# Altium footprint library SMD-IC  0607.PcbLib: 125 footprints (part 7 of 8)
Each footprint in its own frame and in the unit in brackets; x right, y up, seen from the top. Pads: shape width x height; smd on the part's side, far side on the other; paste and mask are expansions set on the pad; w line width, h text height; cw(c..) or ccw(c..) is an arc to the next point about the centre after c.
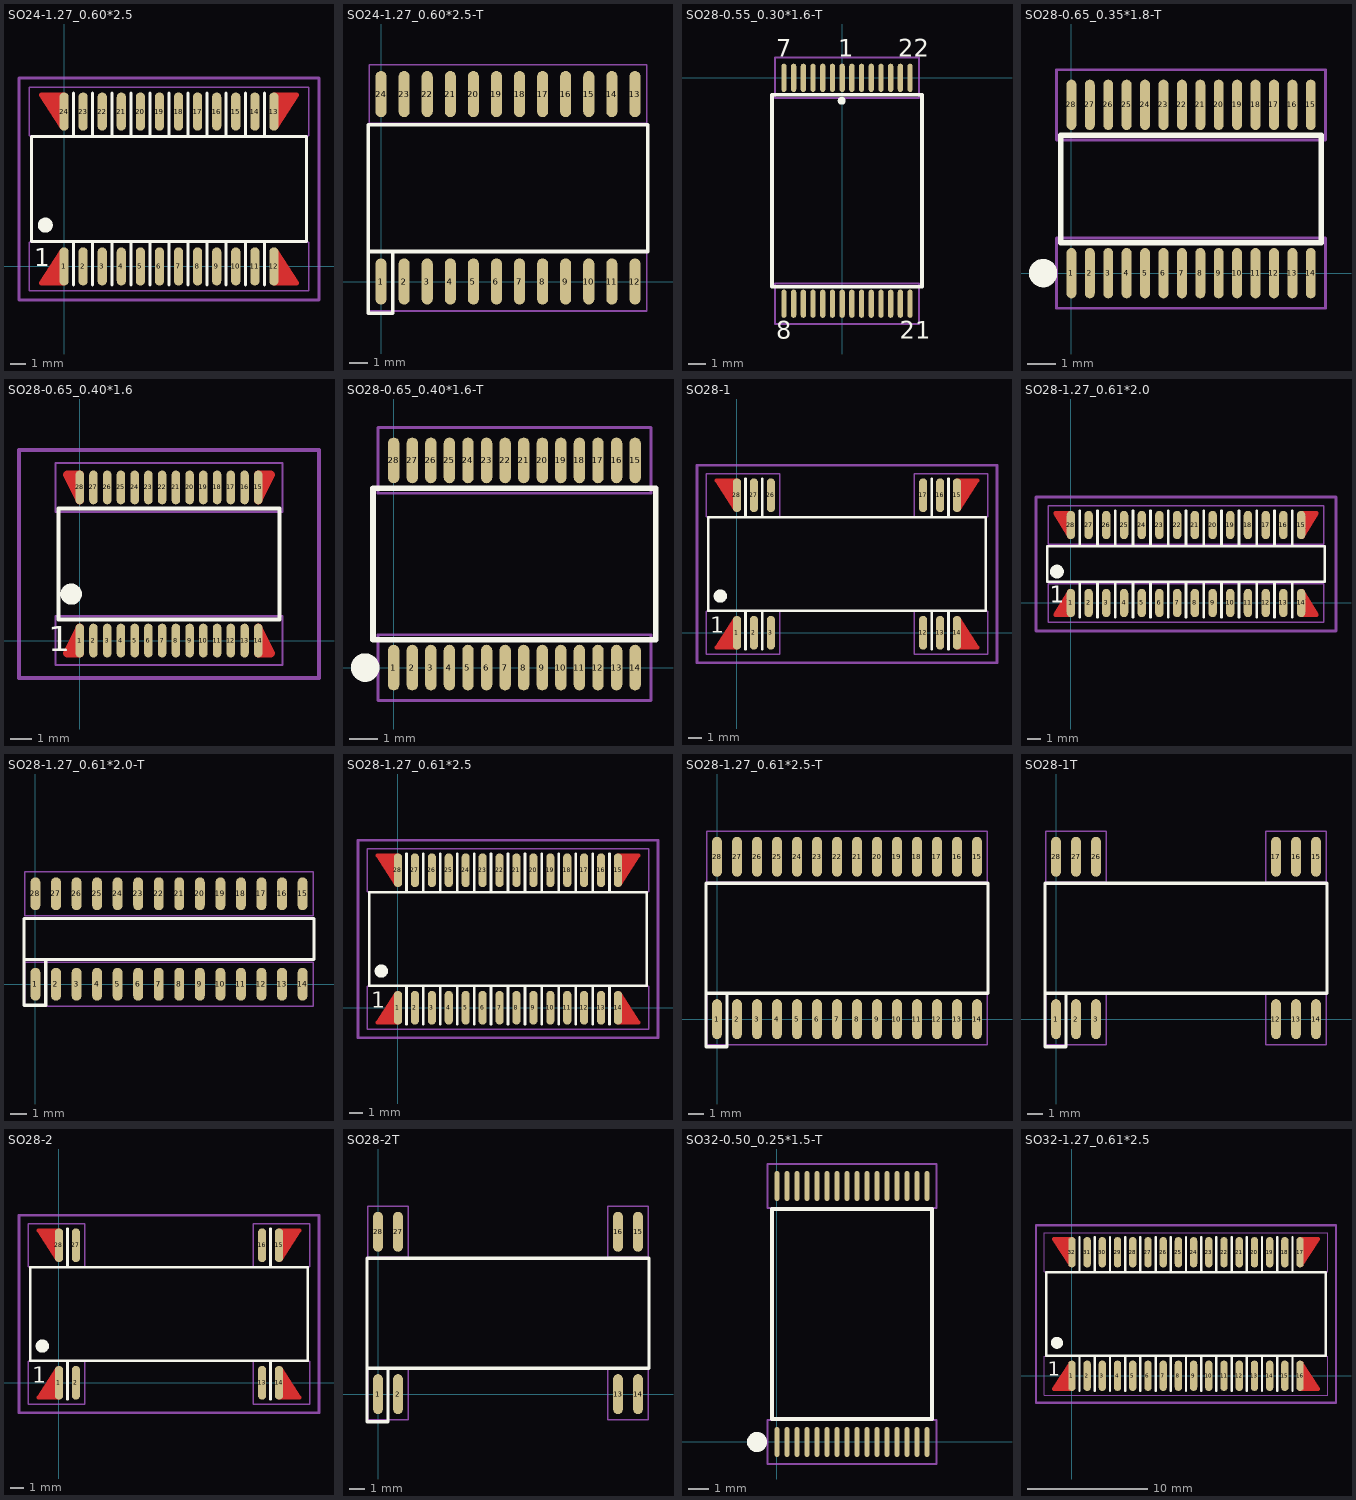
[diagram p6: the footprints below, top view; thin cyan lines are the x and y axes]

## SO24-1.27_0.60*2.5 [mm]
height 2.64
pads (24):
  oval 0.61x2.54 smd: 1(0,0) 2(1.27,0) 3(2.54,0) 4(3.81,0) 5(5.08,0) 6(6.35,0) 7(7.62,0) 8(8.89,0) 9(10.16,0) 10(11.43,0) 11(12.7,0) 12(13.97,0) 13(13.97,10.312) 14(12.7,10.312) 15(11.43,10.312) 16(10.16,10.312) 17(8.89,10.312) 18(7.62,10.312) 19(6.35,10.312) 20(5.08,10.312) 21(3.81,10.312) 22(2.54,10.312) 23(1.27,10.312) 24(0,10.312)
Top Layer:
  lines w0.305: -0.125,1.05 -1.53,-1.12 0,-1.12 ; -0.125,9.262 -1.53,11.432 0,11.432 ; 13.97,-1.12 15.5,-1.12 14.095,1.05 ; 13.97,11.432 15.5,11.432 14.095,9.262
  lines w0.61: -1.05,-0.95 -0.25,0.25 ; -1.05,11.262 -0.25,10.062 ; -0.55,-0.9 -0.325,-0.625 ; -0.55,11.212 -0.325,10.937 ; 14.22,0.25 15.02,-0.95 ; 14.22,10.062 15.02,11.262 ; 14.295,-0.625 14.52,-0.9 ; 14.295,10.937 14.52,11.212
Top Overlay:
  circle w0.5: c-1.25,2.75 r0.25
  lines w0.2: 0.635,-1.244 0.635,1.656 ; 0.635,8.656 0.635,11.556 ; 1.905,-1.244 1.905,1.656 ; 1.905,8.656 1.905,11.556 ; 3.175,-1.244 3.175,1.656 ; 3.175,8.656 3.175,11.556 ; 4.445,-1.244 4.445,1.656 ; 4.445,8.656 4.445,11.556 ; 5.715,-1.244 5.715,1.656 ; 5.715,8.656 5.715,11.556 ; 6.985,-1.244 6.985,1.656 ; 6.985,8.656 6.985,11.556 ; 8.255,-1.244 8.255,1.656 ; 8.255,8.656 8.255,11.556 ; 9.525,-1.244 9.525,1.656 ; 9.525,8.656 9.525,11.556 ; 10.795,-1.244 10.795,1.656 ; 10.795,8.656 10.795,11.556 ; 12.065,-1.244 12.065,1.656 ; 12.065,8.656 12.065,11.556 ; 13.335,-1.244 13.335,1.656 ; 13.335,8.656 13.335,11.556 ; -2.159,1.656 16.129,1.656 16.129,8.656 -2.159,8.656 -2.159,1.656
  text "1" at -2,0 h1.2
Top Solder:
  lines w0.305: -0.125,1.05 -1.53,-1.12 0,-1.12 ; -0.125,9.262 -1.53,11.432 0,11.432 ; 13.97,-1.12 15.5,-1.12 14.095,1.05 ; 13.97,11.432 15.5,11.432 14.095,9.262
  lines w0.61: -1.05,-0.95 -0.25,0.25 ; -1.05,11.262 -0.25,10.062 ; -0.55,-0.9 -0.325,-0.625 ; -0.55,11.212 -0.325,10.937 ; 14.22,0.25 15.02,-0.95 ; 14.22,10.062 15.02,11.262 ; 14.295,-0.625 14.52,-0.9 ; 14.295,10.937 14.52,11.212
Mechanical 8:
  lines w0.2: -3,-2.244 -3,12.556 16.97,12.556 16.97,-2.244 -3,-2.244
Mechanical 16:
  lines w0.1: -2.302,-1.62 16.272,-1.62 16.272,1.62 -2.302,1.62 -2.302,-1.62 ; -2.302,8.692 -2.302,11.932 16.272,11.932 16.272,8.692 -2.302,8.692

## SO24-1.27_0.60*2.5-T [mm]
height 2.64
pads (24):
  oval 0.61x2.54 smd: 1(0,0) 2(1.27,0) 3(2.54,0) 4(3.81,0) 5(5.08,0) 6(6.35,0) 7(7.62,0) 8(8.89,0) 9(10.16,0) 10(11.43,0) 11(12.7,0) 12(13.97,0) 13(13.97,10.312) 14(12.7,10.312) 15(11.43,10.312) 16(10.16,10.312) 17(8.89,10.312) 18(7.62,10.312) 19(6.35,10.312) 20(5.08,10.312) 21(3.81,10.312) 22(2.54,10.312) 23(1.27,10.312) 24(0,10.312)
Top Overlay:
  lines w0.2: -0.7,1.651 14.67,1.651 14.67,8.636 -0.7,8.636 -0.7,-1.75 0.635,-1.75 0.635,1.651
Mechanical 15:
  lines w0.1: -0.655,-1.62 14.625,-1.62 14.625,1.62 -0.655,1.62 -0.655,-1.62 ; -0.655,8.692 -0.655,11.932 14.625,11.932 14.625,8.692 -0.655,8.692

## SO28-0.55_0.30*1.6-T [mm]
height 1.2
pads (28):
  oval 0.3x1.6 smd: 1(0,0) 2(-0.55,0) 3(-1.1,0) 4(-1.65,0) 5(-2.2,0) 6(-2.75,0) 7(-3.3,0) 8(-3.3,-12.8) 9(-2.75,-12.8) 10(-2.2,-12.8) 11(-1.65,-12.8) 12(-1.1,-12.8) 13(-0.55,-12.8) 14(0,-12.8) 15(0.55,-12.8) 16(1.1,-12.8) 17(1.65,-12.8) 18(2.2,-12.8) 19(2.75,-12.8) 20(3.3,-12.8) 21(3.85,-12.8) 22(3.85,0) 23(3.3,0) 24(2.75,0) 25(2.2,0) 26(1.65,0) 27(1.1,0) 28(0.55,0)
Top Overlay:
  circle w0.25: c-0.025,-1.3 r0.1
  lines w0.2: -3.975,-11.85 -3.975,-0.95 4.525,-0.95 4.525,-11.85 -3.975,-11.85
  text "1" at -0.225,1.2 h1
  text "7" at -3.725,1.2 h1
  text "22" at 3.175,1.2 h1
  text "21" at 3.275,-14.8 h1
  text "8" at -3.725,-14.8 h1
Mechanical 15:
  lines w0.1: -3.8,-13.953 4.35,-13.95 4.35,-11.65 -3.8,-11.65 -3.8,-13.95 ; -3.8,1.15 -3.8,-1.15 4.35,-1.15 4.35,1.15 -3.8,1.153

## SO28-0.65_0.35*1.8-T [mm]
height 1.1
pads (28):
  oval 0.35x1.78 smd: 1(0,0) 2(0.65,0) 3(1.3,0) 4(1.95,0) 5(2.6,0) 6(3.25,0) 7(3.9,0) 8(4.55,0) 9(5.2,0) 10(5.85,0) 11(6.5,0) 12(7.15,0) 13(7.8,0) 14(8.45,0) 15(8.45,5.94) 16(7.8,5.94) 17(7.15,5.94) 18(6.5,5.94) 19(5.85,5.94) 20(5.2,5.94) 21(4.55,5.94) 22(3.9,5.94) 23(3.25,5.94) 24(2.6,5.94) 25(1.95,5.94) 26(1.3,5.94) 27(0.65,5.94) 28(0,5.94)
Top Overlay:
  circle w0.5: c-1,0 r0.25
  lines w0.2: -0.375,1.07 8.825,1.07 8.825,4.87 -0.375,4.87 -0.375,1.07
Mechanical 15:
  lines w0.1: -0.525,-1.24 8.975,-1.24 8.975,1.24 -0.525,1.24 -0.525,-1.24 ; -0.525,4.7 -0.525,7.18 8.975,7.18 8.975,4.7 -0.525,4.7

## SO28-0.65_0.40*1.6 [mm] "2610497437"
height 1.85
pads (28):
  oval 0.4x1.6 smd: 1(0,0) 2(0.65,0) 3(1.3,0) 4(1.95,0) 5(2.6,0) 6(3.25,0) 7(3.9,0) 8(4.55,0) 9(5.2,0) 10(5.85,0) 11(6.5,0) 12(7.15,0) 13(7.8,0) 14(8.45,0) 15(8.45,7.25) 16(7.8,7.25) 17(7.15,7.25) 18(6.5,7.25) 19(5.85,7.25) 20(5.2,7.25) 21(4.55,7.25) 22(3.9,7.25) 23(3.25,7.25) 24(2.6,7.25) 25(1.95,7.25) 26(1.3,7.25) 27(0.65,7.25) 28(0,7.25)
Top Layer:
  lines w0.4: -0.3,-0.6 0,0.6 -0.6,-0.6 0,-0.6 ; -0.3,7.85 0,6.65 -0.6,7.85 0,7.85 ; 8.45,-0.6 9.05,-0.6 8.45,0.6 8.75,-0.6 ; 8.45,7.85 9.05,7.85 8.45,6.65 8.75,7.85
Top Overlay:
  circle w0.5: c-0.4,2.2 r0.25
  lines w0.2: -1,1 -1,6.25 9.45,6.25 9.45,1 -1,1
  text "1" at -1.5,-0.5 h1.2
Top Solder:
  lines w0.3: -0.3,-0.6 0,0.6 -0.6,-0.6 0,-0.6 ; -0.3,7.85 0,6.65 -0.6,7.85 0,7.85 ; 8.45,-0.6 9.05,-0.6 8.45,0.6 8.75,-0.6 ; 8.45,7.85 9.05,7.85 8.45,6.65 8.75,7.85
Mechanical 8:
  lines w0.2: -2.875,-1.775 -2.875,9.025 11.325,9.025 11.325,-1.775 -2.875,-1.775
Mechanical 16:
  lines w0.1: -1.15,-1.15 -1.15,1.15 9.6,1.15 9.6,-1.15 -1.15,-1.15 ; -1.15,6.1 9.6,6.1 9.6,8.4 -1.15,8.4 -1.15,6.1

## SO28-0.65_0.40*1.6-T [mm] "2610497437"
height 1.85
pads (28):
  oval 0.4x1.6 smd: 1(0,0) 2(0.65,0) 3(1.3,0) 4(1.95,0) 5(2.6,0) 6(3.25,0) 7(3.9,0) 8(4.55,0) 9(5.2,0) 10(5.85,0) 11(6.5,0) 12(7.15,0) 13(7.8,0) 14(8.45,0) 15(8.45,7.25) 16(7.8,7.25) 17(7.15,7.25) 18(6.5,7.25) 19(5.85,7.25) 20(5.2,7.25) 21(4.55,7.25) 22(3.9,7.25) 23(3.25,7.25) 24(2.6,7.25) 25(1.95,7.25) 26(1.3,7.25) 27(0.65,7.25) 28(0,7.25)
Top Overlay:
  circle w0.5: c-1,0 r0.25
  lines w0.2: -0.725,0.975 9.175,0.975 9.175,6.275 -0.725,6.275 -0.725,0.975
Mechanical 15:
  lines w0.1: -0.55,-1.15 9,-1.15 9,1.15 -0.55,1.15 -0.55,-1.15 ; -0.55,6.1 -0.55,8.4 9,8.4 9,6.1 -0.55,6.1

## SO28-1 [mil]
height 103.94
pads (12):
  oval 24x100 smd: 1(0,0) 2(50,0) 3(100,0) 12(550,0) 13(600,0) 14(650,0) 15(650,406) 16(600,406) 17(550,406) 26(100,406) 27(50,406) 28(0,406)
Top Layer:
  lines w12: -4.92,41.34 -60.24,-44.09 0,-44.09 ; -4.92,364.66 -60.24,450.09 0,450.09 ; 650,-44.09 710.24,-44.09 654.92,41.34 ; 650,450.09 710.24,450.09 654.92,364.66
  lines w24: -41.34,-37.4 -9.84,9.84 ; -41.34,443.4 -9.84,396.16 ; -21.65,-35.43 -12.8,-24.61 ; -21.65,441.43 -12.8,430.61 ; 659.84,9.84 691.34,-37.4 ; 659.84,396.16 691.34,443.4 ; 662.8,-24.61 671.65,-35.43 ; 662.8,430.61 671.65,441.43
Top Overlay:
  circle w19.68: c-49.21,108.27 r9.84
  lines w7.87: 25,-48.97 25,65.2 ; 25,340.8 25,454.97 ; 75,-48.97 75,65.2 ; 75,340.8 75,454.97 ; 575,-48.97 575,65.2 ; 575,340.8 575,454.97 ; 625,-48.97 625,65.2 ; 625,340.8 625,454.97 ; -85,65.2 -85,340.8 735,340.8 735,65.2 -85,65.2
  text "1" at -78.74,0 h47.24
Top Solder:
  lines w12: -4.92,41.34 -60.24,-44.09 0,-44.09 ; -4.92,364.66 -60.24,450.09 0,450.09 ; 650,-44.09 710.24,-44.09 654.92,41.34 ; 650,450.09 710.24,450.09 654.92,364.66
  lines w24: -41.34,-37.4 -9.84,9.84 ; -41.34,443.4 -9.84,396.16 ; -21.65,-35.43 -12.79,-24.61 ; -21.65,441.43 -12.79,430.61 ; 659.84,9.84 691.34,-37.4 ; 659.84,396.16 691.34,443.4 ; 662.79,-24.61 671.65,-35.43 ; 662.79,430.61 671.65,441.43
Mechanical 8:
  lines w7.87: -118.11,-88.34 768.11,-88.34 768.11,494.34 -118.11,494.34 -118.11,-88.34
Mechanical 16:
  lines w3.94: -90.65,-63.78 -90.65,63.78 125.78,63.78 125.78,-63.78 -90.65,-63.78 ; -90.65,342.22 125.78,342.22 125.78,469.78 -90.65,469.78 -90.65,342.22 ; 524.22,-63.78 740.65,-63.78 740.65,63.78 524.22,63.78 524.22,-63.78 ; 524.22,342.22 740.65,342.22 740.65,469.78 524.22,469.78 524.22,342.22

## SO28-1.27_0.61*2.0 [mil]
pads (28):
  oval 24x80 smd: 1(0,0) 2(50,0) 3(100,0) 4(150,0) 5(200,0) 6(250,0) 7(300,0) 8(350,0) 9(400,0) 10(450,0) 11(500,0) 12(550,0) 13(600,0) 14(650,0) 15(650,220) 16(600,220) 17(550,220) 18(500,220) 19(450,220) 20(400,220) 21(350,220) 22(300,220) 23(250,220) 24(200,220) 25(150,220) 26(100,220) 27(50,220) 28(0,220)
Top Layer:
  lines w12: -4.33,32.48 -43.7,-33.66 0,-33.66 ; -4.33,187.52 -43.7,253.66 0,253.66 ; 650,-33.66 693.7,-33.66 654.33,32.48 ; 650,253.66 693.7,253.66 654.33,187.52
  lines w24: -23.62,-23.62 -11.81,-3.94 ; -23.62,243.62 -11.81,223.94 ; 661.81,-3.94 673.62,-23.62 ; 661.81,223.94 673.62,243.62
Top Overlay:
  circle w19.68: c-39.37,88.58 r9.84
  lines w7.87: 25,-40.35 25,60 ; 25,160 25,260.35 ; 75,-40.35 75,60 ; 75,160 75,260.35 ; 125,-40.35 125,60 ; 125,160 125,260.35 ; 175,-40.35 175,60 ; 175,160 175,260.35 ; 225,-40.35 225,60 ; 225,160 225,260.35 ; 275,-40.35 275,60 ; 275,160 275,260.35 ; 325,-40.35 325,60 ; 325,160 325,260.35 ; 375,-40.35 375,60 ; 375,160 375,260.35 ; 425,-40.35 425,60 ; 425,160 425,260.35 ; 475,-40.35 475,60 ; 475,160 475,260.35 ; 525,-40.35 525,60 ; 525,160 525,260.35 ; 575,-40.35 575,60 ; 575,160 575,260.35 ; 625,-40.35 625,60 ; 625,160 625,260.35 ; -66.93,60 -66.93,160 716.93,160 716.93,60 -66.93,60
  text "1" at -59.06,0 h47.24
Top Solder:
  lines w12: -4.33,32.48 -43.7,-33.66 0,-33.66 ; -4.33,187.52 -43.7,253.66 0,253.66 ; 650,-33.66 693.7,-33.66 654.33,32.48 ; 650,253.66 693.7,253.66 654.33,187.52
  lines w24: -23.62,-23.62 -11.81,-3.94 ; -23.62,243.62 -11.81,223.94 ; 661.81,-3.94 673.62,-23.62 ; 661.81,223.94 673.62,243.62
Mechanical 8:
  lines w7.87: -98.43,-78.98 -98.43,298.98 748.43,298.98 748.43,-78.98 -98.43,-78.98
Mechanical 16:
  lines w3.94: -63.48,-53.78 -63.48,53.78 713.48,53.78 713.48,-53.78 -63.48,-53.78 ; -63.48,166.22 713.48,166.22 713.48,273.78 -63.48,273.78 -63.48,166.22

## SO28-1.27_0.61*2.0-T [mil]
pads (28):
  oval 24x80 smd: 1(0,0) 2(50,0) 3(100,0) 4(150,0) 5(200,0) 6(250,0) 7(300,0) 8(350,0) 9(400,0) 10(450,0) 11(500,0) 12(550,0) 13(600,0) 14(650,0) 15(650,220) 16(600,220) 17(550,220) 18(500,220) 19(450,220) 20(400,220) 21(350,220) 22(300,220) 23(250,220) 24(200,220) 25(150,220) 26(100,220) 27(50,220) 28(0,220)
Top Overlay:
  lines w7.87: -27.56,60 677.56,60 677.56,160 -27.56,160 -27.56,-51.18 25,-51.18 25,60
Mechanical 15:
  lines w3.94: -25.78,-53.78 675.78,-53.78 675.78,53.82 -25.78,53.78 -25.78,-53.78 ; -25.78,166.22 -25.78,273.82 675.78,273.78 675.78,166.22 -25.78,166.22

## SO28-1.27_0.61*2.5 [mil]
height 103.94
pads (28):
  oval 24x100 smd: 1(0,0) 2(50,0) 3(100,0) 4(150,0) 5(200,0) 6(250,0) 7(300,0) 8(350,0) 9(400,0) 10(450,0) 11(500,0) 12(550,0) 13(600,0) 14(650,0) 15(650,406) 16(600,406) 17(550,406) 18(500,406) 19(450,406) 20(400,406) 21(350,406) 22(300,406) 23(250,406) 24(200,406) 25(150,406) 26(100,406) 27(50,406) 28(0,406)
Top Layer:
  lines w12: -4.92,41.34 -60.24,-44.09 0,-44.09 ; -4.92,364.66 -60.24,450.09 0,450.09 ; 650,-44.09 710.24,-44.09 654.92,41.34 ; 650,450.09 710.24,450.09 654.92,364.66
  lines w24: -41.34,-37.4 -9.84,9.84 ; -41.34,443.4 -9.84,396.16 ; -21.65,-35.43 -12.8,-24.61 ; -21.65,441.43 -12.8,430.61 ; 659.84,9.84 691.34,-37.4 ; 659.84,396.16 691.34,443.4 ; 662.8,-24.61 671.65,-35.43 ; 662.8,430.61 671.65,441.43
Top Overlay:
  circle w19.68: c-49.21,108.27 r9.84
  lines w7.87: 25,-48.97 25,65.2 ; 25,340.8 25,454.97 ; 75,-48.97 75,65.2 ; 75,340.8 75,454.97 ; 125,-48.97 125,65.2 ; 125,340.8 125,454.97 ; 175,-48.97 175,65.2 ; 175,340.8 175,454.97 ; 225,-48.97 225,65.2 ; 225,340.8 225,454.97 ; 275,-48.97 275,65.2 ; 275,340.8 275,454.97 ; 325,-48.97 325,65.2 ; 325,340.8 325,454.97 ; 375,-48.97 375,65.2 ; 375,340.8 375,454.97 ; 425,-48.97 425,65.2 ; 425,340.8 425,454.97 ; 475,-48.97 475,65.2 ; 475,340.8 475,454.97 ; 525,-48.97 525,65.2 ; 525,340.8 525,454.97 ; 575,-48.97 575,65.2 ; 575,340.8 575,454.97 ; 625,-48.97 625,65.2 ; 625,340.8 625,454.97 ; -85,65.2 -85,340.8 735,340.8 735,65.2 -85,65.2
  text "1" at -78.74,0 h47.24
Top Solder:
  lines w12: -4.92,41.34 -60.24,-44.09 0,-44.09 ; -4.92,364.66 -60.24,450.09 0,450.09 ; 650,-44.09 710.24,-44.09 654.92,41.34 ; 650,450.09 710.24,450.09 654.92,364.66
  lines w24: -41.34,-37.4 -9.84,9.84 ; -41.34,443.4 -9.84,396.16 ; -21.65,-35.43 -12.79,-24.61 ; -21.65,441.43 -12.79,430.61 ; 659.84,9.84 691.34,-37.4 ; 659.84,396.16 691.34,443.4 ; 662.79,-24.61 671.65,-35.43 ; 662.79,430.61 671.65,441.43
Mechanical 8:
  lines w7.87: -118.11,-88.34 -118.11,494.34 768.11,494.34 768.11,-88.34 -118.11,-88.34
Mechanical 16:
  lines w3.94: -90.65,-63.78 740.65,-63.78 740.65,63.78 -90.65,63.78 -90.65,-63.78 ; -90.65,342.22 -90.65,469.78 740.65,469.78 740.65,342.22 -90.65,342.22

## SO28-1.27_0.61*2.5-T [mil]
height 103.94
pads (28):
  oval 24x100 smd: 1(0,0) 2(50,0) 3(100,0) 4(150,0) 5(200,0) 6(250,0) 7(300,0) 8(350,0) 9(400,0) 10(450,0) 11(500,0) 12(550,0) 13(600,0) 14(650,0) 15(650,406) 16(600,406) 17(550,406) 18(500,406) 19(450,406) 20(400,406) 21(350,406) 22(300,406) 23(250,406) 24(200,406) 25(150,406) 26(100,406) 27(50,406) 28(0,406)
Top Overlay:
  lines w7.87: -27.56,65 677.56,65 677.56,340 -27.56,340 -27.56,-68.9 25,-68.9 25,65
Mechanical 15:
  lines w3.94: -25.78,-63.78 -25.78,63.78 675.78,63.78 675.78,-63.78 -25.78,-63.78 ; -25.78,342.22 675.78,342.22 675.78,469.78 -25.78,469.78 -25.78,342.22

## SO28-1T [mil]
height 103.94
pads (12):
  oval 24x100 smd: 1(0,0) 2(50,0) 3(100,0) 12(550,0) 13(600,0) 14(650,0) 15(650,406) 16(600,406) 17(550,406) 26(100,406) 27(50,406) 28(0,406)
Top Overlay:
  lines w7.87: -27.56,65 677.56,65 677.56,340 -27.56,340 -27.56,-68.9 25,-68.9 25,65
Mechanical 15:
  lines w3.94: -25.78,-63.78 125.78,-63.78 125.78,63.78 -25.78,63.78 -25.78,-63.78 ; -25.78,342.22 -25.78,469.78 125.78,469.78 125.78,342.22 -25.78,342.22 ; 524.22,-63.78 675.78,-63.78 675.78,63.78 524.22,63.78 524.22,-63.78 ; 524.22,342.22 524.22,469.78 675.78,469.78 675.78,342.22 524.22,342.22

## SO28-2 [mil]
height 103.94
pads (8):
  oval 24x100 smd: 1(0,0) 2(50,0) 13(600,0) 14(650,0) 15(650,406) 16(600,406) 27(50,406) 28(0,406)
Top Layer:
  lines w12: -4.92,41.34 -60.24,-44.09 0,-44.09 ; -4.92,364.66 -60.24,450.09 0,450.09 ; 650,-44.09 710.24,-44.09 654.92,41.34 ; 650,450.09 710.24,450.09 654.92,364.66
  lines w24: -41.34,-37.4 -9.84,9.84 ; -41.34,443.4 -9.84,396.16 ; -21.65,-35.43 -12.8,-24.61 ; -21.65,441.43 -12.8,430.61 ; 659.84,9.84 691.34,-37.4 ; 659.84,396.16 691.34,443.4 ; 662.8,-24.61 671.65,-35.43 ; 662.8,430.61 671.65,441.43
Top Overlay:
  circle w19.68: c-49.21,108.27 r9.84
  lines w7.87: 25,-48.97 25,65.2 ; 25,340.8 25,454.97 ; 625,-48.97 625,65.2 ; 625,340.8 625,454.97 ; -85,65.2 -85,340.8 735,340.8 735,65.2 -85,65.2
  text "1" at -78.74,0 h47.24
Top Solder:
  lines w12: -4.92,41.34 -60.24,-44.09 0,-44.09 ; -4.92,364.66 -60.24,450.09 0,450.09 ; 650,-44.09 710.24,-44.09 654.92,41.34 ; 650,450.09 710.24,450.09 654.92,364.66
  lines w24: -41.34,-37.4 -9.84,9.84 ; -41.34,443.4 -9.84,396.16 ; -21.65,-35.43 -12.79,-24.61 ; -21.65,441.43 -12.79,430.61 ; 659.84,9.84 691.34,-37.4 ; 659.84,396.16 691.34,443.4 ; 662.79,-24.61 671.65,-35.43 ; 662.79,430.61 671.65,441.43
Mechanical 8:
  lines w7.87: -118.11,-88.34 -118.11,494.34 768.11,494.34 768.11,-88.34 -118.11,-88.34
Mechanical 16:
  lines w3.94: -90.65,-63.78 75.78,-63.78 75.78,63.78 -90.65,63.78 -90.65,-63.78 ; -90.65,342.22 -90.65,469.78 75.78,469.78 75.78,342.22 -90.65,342.22 ; 574.22,-63.78 574.22,63.78 740.65,63.78 740.65,-63.78 574.22,-63.78 ; 574.22,342.22 574.22,469.78 740.65,469.78 740.65,342.22 574.22,342.22

## SO28-2T [mil]
height 103.94
pads (8):
  oval 24x100 smd: 1(0,0) 2(50,0) 13(600,0) 14(650,0) 15(650,406) 16(600,406) 27(50,406) 28(0,406)
Top Overlay:
  lines w7.87: -27.56,65 677.56,65 677.56,340 -27.56,340 -27.56,-68.9 25,-68.9 25,65
Mechanical 15:
  lines w3.94: -25.78,-63.78 75.78,-63.78 75.78,63.78 -25.78,63.78 -25.78,-63.78 ; -25.78,342.22 -25.78,469.78 75.78,469.78 75.78,342.22 -25.78,342.22 ; 574.22,-63.78 574.22,63.78 675.78,63.78 675.78,-63.78 574.22,-63.78 ; 574.22,342.22 574.22,469.78 675.78,469.78 675.78,342.22 574.22,342.22

## SO32-0.50_0.25*1.5-T [mm]
pads (32):
  oval 0.25x1.5 smd: 1(0,0) 2(0.5,0) 3(1,0) 4(1.5,0) 5(2,0) 6(2.5,0) 7(3,0) 8(3.5,0) 9(4,0) 10(4.5,0) 11(5,0) 12(5.5,0) 13(6,0) 14(6.5,0) 15(7,0) 16(7.5,0) 17(7.5,12.8) 18(7,12.8) 19(6.5,12.8) 20(6,12.8) 21(5.5,12.8) 22(5,12.8) 23(4.5,12.8) 24(4,12.8) 25(3.5,12.8) 26(3,12.8) 27(2.5,12.8) 28(2,12.8) 29(1.5,12.8) 30(1,12.8) 31(0.5,12.8) 32(0,12.8)
Top Overlay:
  circle w0.5: c-1,0 r0.25
  lines w0.2: -0.25,1.15 -0.25,11.65 7.75,11.65 7.75,1.15 -0.25,1.15
Mechanical 15:
  lines w0.1: -0.475,-1.1 7.975,-1.1 7.975,1.1 -0.475,1.1 -0.475,-1.1 ; -0.475,11.7 -0.475,13.9 7.975,13.9 7.975,11.7 -0.475,11.7

## SO32-1.27_0.61*2.5 [mil]
pads (32):
  oval 24x100 smd: 1(0,0) 2(50,0) 3(100,0) 4(150,0) 5(200,0) 6(250,0) 7(300,0) 8(350,0) 9(400,0) 10(450,0) 11(500,0) 12(550,0) 13(600,0) 14(650,0) 15(700,0) 16(750,0) 17(750,406) 18(700,406) 19(650,406) 20(600,406) 21(550,406) 22(500,406) 23(450,406) 24(400,406) 25(350,406) 26(300,406) 27(250,406) 28(200,406) 29(150,406) 30(100,406) 31(50,406) 32(0,406)
Top Layer:
  lines w12: -4.92,41.34 -60.24,-44.09 0,-44.09 ; -4.92,364.66 -60.24,450.09 0,450.09 ; 750,-44.09 810.24,-44.09 754.92,41.34 ; 750,450.09 810.24,450.09 754.92,364.66
  lines w24: -41.34,-37.4 -9.84,9.84 ; -41.34,443.4 -9.84,396.16 ; -21.65,-35.43 -12.8,-24.61 ; -21.65,441.43 -12.8,430.61 ; 759.84,9.84 791.34,-37.4 ; 759.84,396.16 791.34,443.4 ; 762.8,-24.61 771.65,-35.43 ; 762.8,430.61 771.65,441.43
Top Overlay:
  circle w19.68: c-49.21,108.27 r9.84
  lines w7.87: 25,-48.97 25,65.2 ; 25,340.8 25,454.97 ; 75,-48.97 75,65.2 ; 75,340.8 75,454.97 ; 125,-48.97 125,65.2 ; 125,340.8 125,454.97 ; 175,-48.97 175,65.2 ; 175,340.8 175,454.97 ; 225,-48.97 225,65.2 ; 225,340.8 225,454.97 ; 275,-48.97 275,65.2 ; 275,340.8 275,454.97 ; 325,-48.97 325,65.2 ; 325,340.8 325,454.97 ; 375,-48.97 375,65.2 ; 375,340.8 375,454.97 ; 425,-48.97 425,65.2 ; 425,340.8 425,454.97 ; 475,-48.97 475,65.2 ; 475,340.8 475,454.97 ; 525,-48.97 525,65.2 ; 525,340.8 525,454.97 ; 575,-48.97 575,65.2 ; 575,340.8 575,454.97 ; 625,-48.97 625,65.2 ; 625,340.8 625,454.97 ; 675,-48.97 675,65.2 ; 675,340.8 675,454.97 ; 725,-48.97 725,65.2 ; 725,340.8 725,454.97 ; -85,65.2 -85,340.8 835,340.8 835,65.2 -85,65.2
  text "1" at -78.74,0 h47.24
Top Solder:
  lines w12: -4.92,41.34 -60.24,-44.09 0,-44.09 ; -4.92,364.66 -60.24,450.09 0,450.09 ; 750,-44.09 810.24,-44.09 754.92,41.34 ; 750,450.09 810.24,450.09 754.92,364.66
  lines w24: -41.34,-37.4 -9.84,9.84 ; -41.34,443.4 -9.84,396.16 ; -21.65,-35.43 -12.79,-24.61 ; -21.65,441.43 -12.79,430.61 ; 759.84,9.84 791.34,-37.4 ; 759.84,396.16 791.34,443.4 ; 762.79,-24.61 771.65,-35.43 ; 762.79,430.61 771.65,441.43
Mechanical 8:
  lines w7.87: -118.11,-88.34 868.11,-88.34 868.11,494.34 -118.11,494.34 -118.11,-88.34
Mechanical 16:
  lines w3.94: -90.65,-63.78 -90.65,63.78 840.65,63.78 840.65,-63.78 -90.65,-63.78 ; -90.65,342.22 840.65,342.22 840.65,469.78 -90.65,469.78 -90.65,342.22